# Altium footprint library PTN78020WAD.PcbLib: 2 footprints
Each footprint in its own frame and in the unit in brackets; x right, y up, seen from the top. Pads: shape width x height; smd on the part's side, far side on the other; paste and mask are expansions set on the pad; w line width, h text height; cw(c..) or ccw(c..) is an arc to the next point about the centre after c.
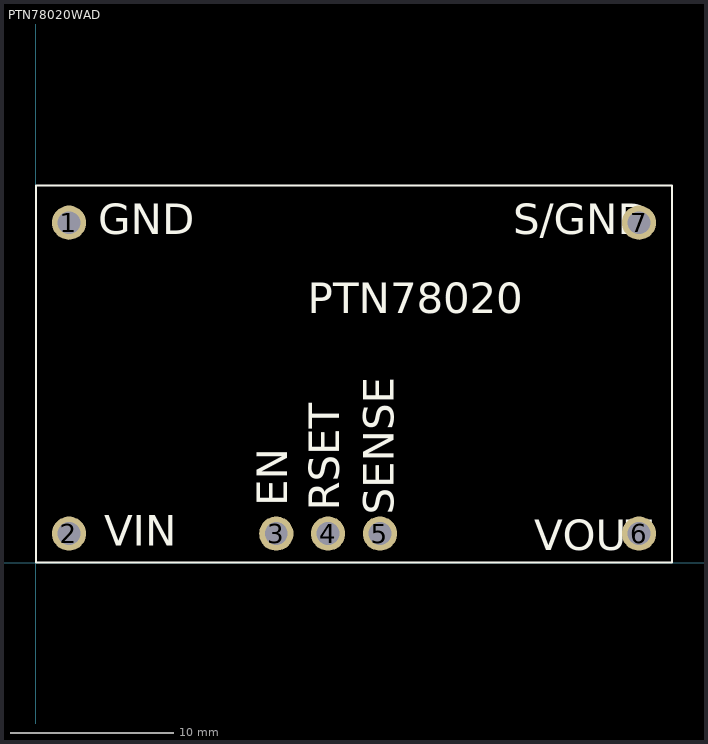
[diagram p0: the footprints below, top view; thin cyan lines are the x and y axes]

## PCBComponent_1 [mm]

## PTN78020WAD [mm]
pads (7):
  round 2.1 hole 1.4: 1(2.032,20.828) 2(2.032,1.778) 3(14.732,1.778) 4(17.907,1.778) 5(21.082,1.778) 6(36.957,1.778) 7(36.957,20.828)
Top Overlay:
  lines w0.127: 0,0 0,23.114 38.989,23.114 38.989,0 0,0
  text "S/GND" at 29.261,20.106 h1.88
  text "GND" at 3.822,20.133 h1.88
  text "SENSE" at 21.922,2.936 h1.88
  text "RSET" at 18.593,3.188 h1.88
  text "EN" at 15.414,3.444 h1.88
  text "VOUT" at 30.528,0.768 h1.88
  text "VIN" at 4.199,1.022 h1.88
  text "PTN78020" at 16.668,15.273 h1.88